# Altium integrated library MC21R01.IntLib: 84 symbols
Pins are listed as number, name and electrical type; pins without a type are passive.

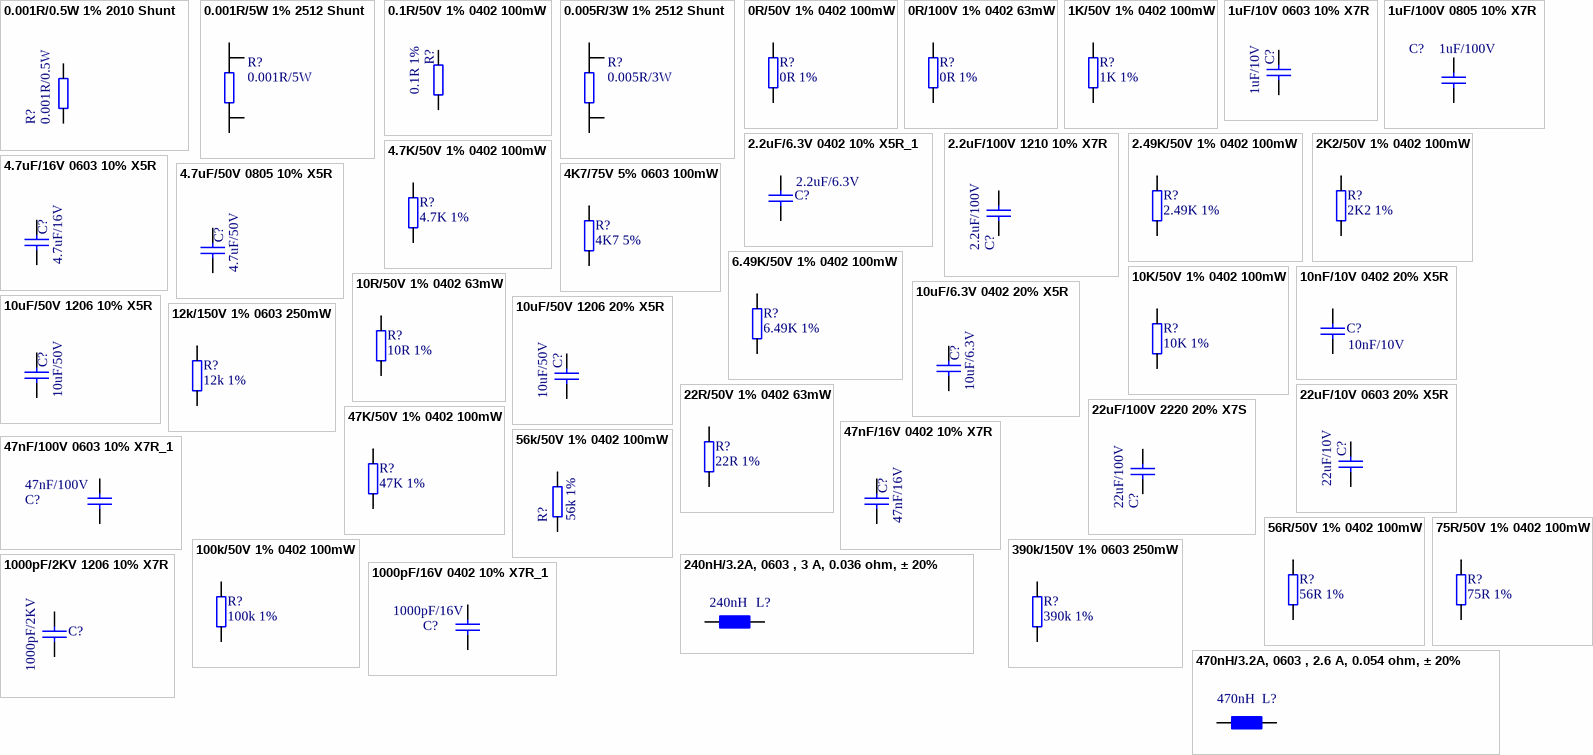
[diagram p0: symbols 0.001R/0.5W 1% 2010 Shunt to 1000pF/16V 0402 10% X7R_1]

## 0.001R/0.5W 1% 2010 Shunt
designator R?, comment 0.001R/0.5W
0.001R/0.5W 1% 2010 shunt SMD Resistor; Manufacturer 1: Vishay; Manufacturer Part Number 1: WSL20101L000FEA; Supplier 1: Farnell; Supplier Part Number 1: 2678801RL
footprint 2010 SMD Resistor VERTICAL (2010)
pins: 1, 2

## 0.001R/5W 1% 2512 Shunt
designator R?, comment 0.001R/5W
0.001R/5W 1% 2512 shunt SMD Resistor; Manufacturer 1: Bourns; Manufacturer Part Number 1: CSS2H-2512R-1L00F; Supplier 1: Farnell; Supplier Part Number 1: 2576347
footprint 2512 SMD Resistor v2 (2512)
footprint 2512 SMD Resistor V2 NETTIE (2512)
pins: 1, 2, 3, 4

## 0.1R/50V 1% 0402 100mW
designator R?, comment 0.1R 1%
0.1R/50V 1% 0402 100mW SMD Resistor; Manufacturer 1: Yageo; Manufacturer Part Number 1: RC0402FR-071KL; Supplier 1: Farnell; Supplier Part Number 1: 1284586; Value: 0.1R
footprint 0402 SMD rESISTOR
pins: 1, 2

## 0.005R/3W 1% 2512 Shunt
designator R?, comment 0.005R/3W
0.005R/3W 1% 2512 shunt SMD Resistor; Manufacturer 1: Bourns; Manufacturer Part Number 1: CRE2512-FZ-R005E-3; Supplier 1: Farnell; Supplier Part Number 1: 2434014
footprint 2512 SMD Resistor v2 (2512)
footprint 2512 SMD Resistor V2 NETTIE (2512)
pins: 1, 2, 3, 4

## 0R/50V 1% 0402 100mW
designator R?, comment 0R 1%
0R/50V 1% 0402 100mW SMD Resistor; Manufacturer 1: Vishay; Manufacturer Part Number 1: CRCW04020000Z0ED; Supplier 1: Farnell; Supplier Part Number 1: 1469661; Value: 0R
footprint 0402 SMD rESISTOR
pins: 1, 2

## 0R/100V 1% 0402 63mW
designator R?, comment 0R 1%
0R/100V 1% 0402 63mW SMD Resistor; Manufacturer 1: Bourns; Manufacturer Part Number 1: CR0402-J/-000GAS; Supplier 1: Farnell; Supplier Part Number 1: 2752981; Value: 0R
footprint 0402 SMD rESISTOR
pins: 1, 2

## 1K/50V 1% 0402 100mW
designator R?, comment 1K 1%
1K/50V 1% 0402 100mW SMD Resistor; Manufacturer 1: Yageo; Manufacturer Part Number 1: RC0402FR-071KL; Supplier 1: Mouser; Supplier 2: Farnell; Supplier Part Number 2: 9239235; Supplier Part Number 1: 603-RC0402FR-071KL; Value: 1K
footprint 0402 SMD rESISTOR
pins: 1, 2

## 1uF/10V 0603 10% X7R
designator C?  value 1uF/10V  (hidden comment: 1uF/10V 0603 10% X7R)
1uF/10V 0603 10% Tolerance X7R Multilayer Ceramic Chip Capacitor; Manufacturer 1: TAIYO YUDEN; Manufacturer Part Number 1: LMK107B7105KA-T; Supplier Part Number 1: 2112849; Supplier 1: Farnell
footprint 0603 SMD capacitor (0603 smd)
footprint 0603 SMD capacitor Hand Soldering (0603 smd)
pins: 1, 2

## 1uF/100V 0805 10% X7R
designator C?  value 1uF/100V  (hidden comment: 1uF/100V 0805 10% X7R)
1 uF 100 V 0805  ±10% Tolerance X7R Multilayer Ceramic Chip Capacitor; Manufacturer 1: AVX; Manufacturer Part Number 1: 08051C105K4T2A; Supplier 1: Farnell; Supplier 2: Mouser; Supplier Part Number 1: 2834935; Supplier Part Number 2: 581-08051C105K4T2A
footprint 0805 SMD capacitor (Chip Capacitor; Body 2.0 x 1.2 mm (LxW typ))
pins: 1, 2

## 2.2uF/6.3V 0402 10% X5R_1
designator C?, comment value 2.2uF/6.3V  (hidden comment: 2.2uF/6.3V 0402 10% X5R)
2.2uF/6.3V 0402 10% Tolerance X5R Multilayer Ceramic Chip Capacitor; Manufacturer 1: KEMET; Manufacturer Part Number 1: C0402C225K9PACTU; Supplier Part Number 1: 2442787; Supplier 1: Farnell
footprint 0402 SMD Capacitor
footprint 0402 SMD Capacitor Hand Soldering
pins: 1, 2

## 2.2uF/100V 1210 10% X7R
designator C?  value 2.2uF/100V  (hidden comment: 2.2uF/100V 1210 10% X7R)
2.2 uF 100 V 1210  ±10% Tolerance X7R Multilayer Ceramic Chip Capacitor; Manufacturer 1: KEMET; Manufacturer Part Number 1: C1210C225K1RACTU; Supplier 1: Farnell; Supplier Part Number 1: 1793832
footprint 1210 SMD capacitor h=2mm
pins: 1, 2

## 2.49K/50V 1% 0402 100mW
designator R?, comment 2.49K 1%
2.49K/50V 1% 0402 100mW SMD Resistor; Manufacturer 1: Vishay; Manufacturer Part Number 1: CRCW04022K49FKED; Supplier 1: Farnell; Supplier Part Number 1: 1469690; Value: 2.49K
footprint 0402 SMD rESISTOR
pins: 1, 2

## 2K2/50V 1% 0402 100mW
designator R?, comment 2K2 1%
2K2/50V 1% 0402 100mW SMD Resistor; Manufacturer 1: Yageo; Manufacturer Part Number 1: RC0402FR-072K2L; Value: 2.2k; Supplier 1: Farnell; Supplier Part Number 1: 9239278
footprint 0402 SMD rESISTOR
pins: 1, 2

## 4.7K/50V 1% 0402 100mW
designator R?, comment 4.7K 1%
4.7K/50V 1% 0402 100mW SMD Resistor; Manufacturer 1: Vishay; Manufacturer Part Number 1: CRCW04024K70FKED; Supplier 1: Farnell; Supplier Part Number 1: 1469712; Value: 4.7K
footprint 0402 SMD rESISTOR
pins: 1, 2

## 4.7uF/16V 0603 10% X5R
designator C?  value 4.7uF/16V  (hidden comment: 4.7uF/16V 0603 10% X5R)
4.7uF/16V 0603 10% Tolerance X5R Multilayer Ceramic Chip Capacitor; Manufacturer 1: TAIYO YUDEN; Manufacturer Part Number 1: EMK107B7105KA-T; Supplier 1: Farnell; Supplier 2: Mouser; Supplier 3: Digi-Key; Supplier Part Number 1: 2211173; Supplier Part Number 2: 810-C1608X5R1C475KAC; Supplier Part Number 3: 445-7478-1-ND
footprint 0603 SMD capacitor (0603 smd)
footprint 0603 SMD capacitor Hand Soldering (0603 smd)
pins: 1, 2

## 4.7uF/50V 0805 10% X5R
designator C?, comment value 4.7uF/50V  (hidden comment: 4.7uf/50V 0805 10% X5R)
4.7uF 50 V 0805 ±10% Tolerance X5R Multilayer Ceramic Chip Capacitor; Manufacturer 1: TDK; Manufacturer Part Number 1: C2012X5R1H475K125AB; Supplier 1: Farnell; Supplier Part Number 1: 2346932
footprint 0805 SMD capacitor (Chip Capacitor; Body 2.0 x 1.2 mm (LxW typ))
pins: 1, 2

## 4K7/75V 5% 0603 100mW
designator R?, comment 4K7 5%
4K7/75V 5% 0603 100mW SMD Resistor; Manufacturer 1: Yageo; Manufacturer Part Number 1: RC0603JR-074K7L; Supplier 1: Farnell; Supplier Part Number 1: 9233466
footprint 0603 SMD resistor (0603 smd)
pins: 1, 2

## 6.49K/50V 1% 0402 100mW
designator R?, comment 6.49K 1%
6.49K/50V 1% 0402 100mW SMD Resistor; Manufacturer 1: Vishay; Manufacturer Part Number 1: CRCW04026K49FKED; Supplier 1: Farnell; Supplier Part Number 1: 1469727; Value: 6.49K
footprint 0402 SMD rESISTOR
pins: 1, 2

## 10K/50V 1% 0402 100mW
designator R?, comment 10K 1%
10K/50V 1% 0402 100mW SMD Resistor; Manufacturer 1: Yageo; Manufacturer Part Number 1: RC0402FR-0710KL; Supplier 1: Farnell; Supplier Part Number 1: 9239359; Value: 10K
footprint 0402 SMD rESISTOR
pins: 1, 2

## 10nF/10V 0402 20% X5R
designator C?  value 10nF/10V  (hidden comment: 10nF/10V 0402 20% X5R)
10nF/10V 0402 20% Tolerance X5R Multilayer Ceramic Chip Capacitor; Manufacturer 1: KEMET; Manufacturer Part Number 1: C0402C103K8PACTU; Supplier Part Number 1: 2773069; Supplier 1: Farnell
footprint 0402 SMD Capacitor
footprint 0402 SMD Capacitor Hand Soldering
pins: 1, 2

## 10R/50V 1% 0402 63mW
designator R?, comment 10R 1%
10R/50V 1% 0402 63mW SMD Resistor; Manufacturer 1: Yageo; Manufacturer Part Number 1: RC0402FR-0710RL; Supplier 1: Farnell; Supplier Part Number 1: 9238999; Value: 10R
footprint 0402 SMD rESISTOR
pins: 1, 2

## 10uF/6.3V 0402 20% X5R
designator C?  value 10uF/6.3V  (hidden comment: 10uF/6.3V 0402 20% X5R)
10uF/6.3V 0402 20% Tolerance X5R Multilayer Ceramic Chip Capacitor; Manufacturer 1: KEMET; Manufacturer Part Number 1: C0402C106M9PACTU; Supplier Part Number 1: 2507061; Supplier 1: Farnell
footprint 0402 SMD Capacitor
footprint 0402 SMD Capacitor Hand Soldering
pins: 1, 2

## 10uF/50V 1206 10% X5R
designator C?, comment value 10uF/50V  (hidden comment: 10uf/50V 1206 10% X5R)
10 uF 50 V 1206 ±10% Tolerance X5R Multilayer Ceramic Chip Capacitor; Manufacturer 1: TDK; Manufacturer Part Number 1: CGA5L3X5R1H106K160AB; Supplier 1: Farnell; Supplier Part Number 1: 2211092
footprint 1206 SMD Capacitor (Chip Resistor; Body 3.2 x 1.6 mm (LxW typ))
pins: 1, 2

## 10uF/50V 1206 20% X5R
designator C?, comment value 10uF/50V  (hidden comment: 10uf/50V 1206 20% X5R)
10 uF 50 V 1206 ±20% Tolerance X5R Multilayer Ceramic Chip Capacitor; Manufacturer 1: Samsung; Manufacturer Part Number 1: CL31A106MBHNNNE; Supplier 1: Digi-key; Supplier Part Number 1: 1276-6736-1-ND
footprint 1206 SMD Capacitor (Chip Resistor; Body 3.2 x 1.6 mm (LxW typ))
pins: 1, 2

## 12k/150V 1% 0603 250mW
designator R?, comment 12k 1%
12k/150V 1% 0603 250mW SMD Resistor; Manufacturer 1: Panasonic; Manufacturer Part Number 1: ERJPA3F1202V; Supplier 1: Farnell; Supplier Part Number 1: 2335844
footprint 0603 SMD resistor (0603 smd)
footprint 0603 SMD resistor (0603 smd)
pins: 1, 2

## 22R/50V 1% 0402 63mW
designator R?, comment 22R 1%
22R/50V 1% 0402 63mW SMD Resistor; Manufacturer 1: Vishay; Manufacturer Part Number 1: CRCW040222R0FKED; Supplier 1: Farnell; Supplier Part Number 1: 1469697; Value: 22R
footprint 0402 SMD rESISTOR
pins: 1, 2

## 22uF/10V 0603 20% X5R
designator C?  value 22uF/10V  (hidden comment: 22uF/10V 0603 20% X5R)
22 uF 10 V 0603 ±20% Tolerance X5R Multilayer Ceramic Chip Capacitor; Manufacturer 1: Murata; Manufacturer Part Number 1: GRM188R60J106KE47D; Supplier 1: Farnell; Supplier Part Number 1: 2426957
footprint 0603 SMD capacitor (0603 smd)
footprint 0603 SMD capacitor Hand Soldering (0603 smd)
pins: 1, 2

## 22uF/100V 2220 20% X7S
designator C?  value 22uF/100V  (hidden comment: 22uF/100V 2220 20% X7S)
22 uF 100 V 2220 ±20% Tolerance X7S Multilayer Ceramic Chip Capacitor; Manufacturer 1: TDK; Manufacturer Part Number 1: CKG57NX7S2A226M500JH; Supplier 1: Farnell; Supplier Part Number 1: 2210742
footprint 2220 SMD Capacitor H=5MM
pins: 1, 2

## 47K/50V 1% 0402 100mW
designator R?, comment 47K 1%
47K/50V 1% 0402 100mW SMD Resistor; Manufacturer 1: Vishay; Manufacturer Part Number 1: CRCW060347K0FKEA; Supplier 1: Farnell; Supplier Part Number 1: 1469811; Value: 47K
footprint 0402 SMD rESISTOR
pins: 1, 2

## 47nF/16V 0402 10% X7R
designator C?  value 47nF/16V  (hidden comment: 47nF/16V 0402 10% X7R)
47nF/16V 0402 10% Tolerance X7R Multilayer Ceramic Chip Capacitor; Manufacturer 1: Walsin; Manufacturer Part Number 1: 0402B473J160CT; Supplier 1: Farnell; Supplier Part Number 1: 2524710
footprint 0402 SMD Capacitor
footprint 0402 SMD Capacitor Hand Soldering
pins: 1, 2

## 47nF/100V 0603 10% X7R_1
designator C?, comment value 47nF/100V  (hidden comment: 47nF/100V 0603 10% X7R)
47 nF 100 V 0603 ±10% Tolerance X7R Multilayer Ceramic Chip Capacitor; Manufacturer 1: KEMET; Manufacturer Part Number 1: C0603C473K1RACTU; Supplier 1: Farnell; Supplier Part Number 1: 1865550
footprint 0603 SMD capacitor (0603 smd)
footprint 0603 SMD capacitor Hand Soldering (0603 smd)
pins: 1, 2

## 56k/50V 1% 0402 100mW
designator R?, comment 56k 1%
56k/50V 1% 0402 63mW SMD Resistor; Manufacturer 1: Yageo; Manufacturer Part Number 1: RC0402FR-0756KL; Supplier 1: Farnell; Supplier Part Number 1: 9239448; Value: 56k
footprint 0402 SMD rESISTOR
pins: 1, 2

## 56R/50V 1% 0402 100mW
designator R?, comment 56R 1%
56R/50V 1% 0402 100mW SMD Resistor; Manufacturer 1: Vishay; Manufacturer Part Number 1: CRCW040256R0FKEDHP; Supplier 1: Farnell; Supplier Part Number 1: 1738833; Value: 56R
footprint 0402 SMD rESISTOR
pins: 1, 2

## 75R/50V 1% 0402 100mW
designator R?, comment 75R 1%
75R/50V 1% 0402 100mW SMD Resistor; Manufacturer 1: Vishay; Manufacturer Part Number 1: RC0402FR-071KL; Supplier 1: Farnell; Supplier Part Number 1: 1469734; Value: 75R
footprint 0402 SMD rESISTOR
pins: 1, 2

## 100k/50V 1% 0402 100mW
designator R?, comment 100k 1%
100k/50V 1% 0402 100mW SMD Resistor; Manufacturer 1: Vishay; Manufacturer Part Number 1: CRCW0402100KFKED; Supplier 1: Farnell; Supplier Part Number 1: 1469671; Value: 100k
footprint 0402 SMD rESISTOR
pins: 1, 2

## 240nH/3.2A, 0603 , 3 A, 0.036 ohm, ± 20%
designator L?, comment 240nH
Inductor, 240nH, 0603 [1608 Metric], 3.2 A, 0.036 ohm, ± 20%; MPN: DFE18SANR24ME0L; MF: MURATA; Tolerance: ±250%; DC Current Rating: 3.2A; DC Resistance Max:: 0.04R; Impedance: 240nH; Supplier 1: Farnell; Supplier Part Number 1: 2871416
footprint 0603 SMD inductor (0603 smd)
pins: 1, 2

## 390k/150V 1% 0603 250mW
designator R?, comment 390k 1%
390k/150V 1% 0603 250mW SMD Resistor; Manufacturer 1: Panasonic; Manufacturer Part Number 1: ERJPA3F3903V; Supplier 1: Farnell; Supplier Part Number 1: 2335911
footprint 0603 SMD resistor (0603 smd)
footprint 0603 SMD resistor (0603 smd)
pins: 1, 2

## 470nH/3.2A, 0603 , 2.6 A, 0.054 ohm, ± 20%
designator L?, comment 470nH
Inductor, 470nH, 0603 [1608 Metric], 2.6 A, 0.054 ohm, ± 20%; MPN: DFE18SANR47MG0L; MF: MURATA; Tolerance: ±250%; DC Current Rating: 2.6A; DC Resistance Max:: 0.056R; Impedance: 470nH; Supplier 1: Mouser; Supplier Part Number 1: 81-DFE18SANR47MG0L
footprint 0603 SMD inductor (0603 smd)
pins: 1, 2

## 1000pF/2KV 1206 10% X7R
designator C?, comment 1000pF/2KV
1000 pF 2 KV 1206  ±10% Tolerance X7R Multilayer Ceramic Chip Capacitor; Manufacturer 1: Kemet; Manufacturer Part Number 1: C1206C102KGRACTU; Supplier Part Number 1: 1572651; Supplier 1: Farnell; Value: 1000pF/2KV
footprint 1206 SMD Capacitor (Chip Resistor; Body 3.2 x 1.6 mm (LxW typ))
pins: 1, 2

## 1000pF/16V 0402 10% X7R_1
designator C?, comment value 1000pF/16V  (hidden comment: 1000pF/16V 0402 10% X7R)
1000pF/16V 0402 10% Tolerance X7R Multilayer Ceramic Chip Capacitor; Manufacturer 1: KEMET; Manufacturer Part Number 1: C0402C102K4RACTU; Supplier 1: Farnell; Supplier Part Number 1: 2522378
footprint 0402 SMD Capacitor
footprint 0402 SMD Capacitor Hand Soldering
pins: 1, 2

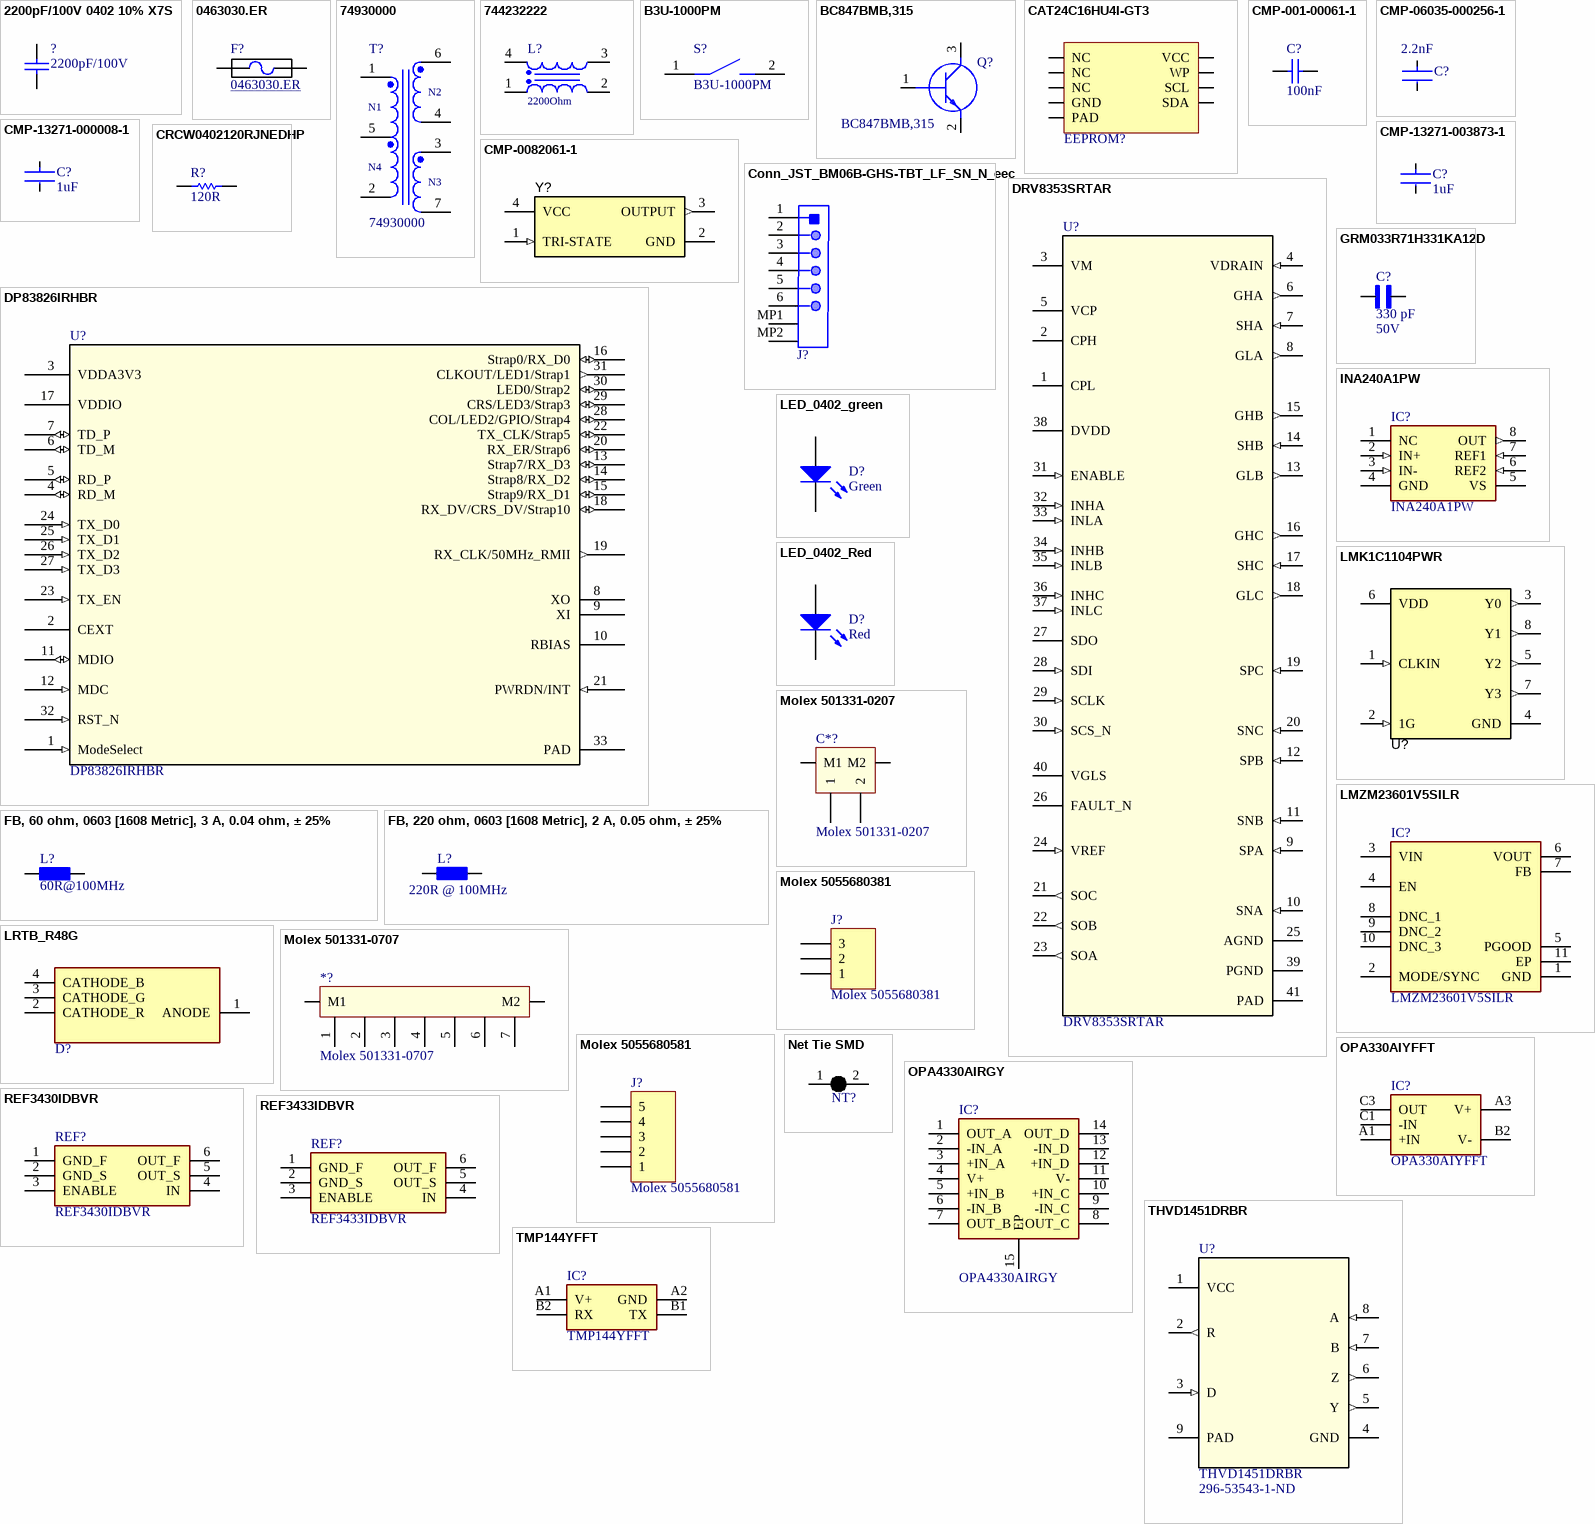
[diagram p1: symbols 2200pF/100V 0402 10% X7S to TMP144YFFT]

## 2200pF/100V 0402 10% X7S
designator ?  value 2200pF/100V  (hidden comment: 2200pF/100V 0402 10% X7S)
2200pF/100V 0402 10% Tolerance X7S Multilayer Ceramic Chip Capacitor; Manufacturer 1: TDK; Manufacturer Part Number 1: C1005X7S2A222K050BB; Supplier 1: Farnell; Supplier Part Number 1: 2906779
footprint 0402 SMD Capacitor
footprint 0402 SMD Capacitor Hand Soldering
pins: 1, 2

## 0463030.ER
designator F?
LITTELFUSE - 0463030.ER - 100VDC 30A FUSE SMD; Supplier 1: Farnell; Supplier Part Number 1: 2786390
footprint 0463030.ER (Littelfuse 100VDC 30A)
pins: 1, 2

## 74930000
designator T?
WE-STST Super Tiny Signal Transformer, size 4532, 350uH; Insulation Test Voltage: 1500VRMS; Turns Ratio: 1:1; ComponentLink1Description: Manufacturer; ComponentLink1URL: http://www.we-online.de; ComponentLink2Description: Datasheet; ComponentLink2URL: https://katalog.we-online.com/pbs/datasheet/74930000.pdf; Packaging: Tape and Reel; Publisher: Wurth Elektronik; Size: 4532; Inductance: 350uH; Mounting Technology: SMT; Operating Temperature: -40 to +105degC; Part Number: 74930000; Published Date: November 2019
footprint 74930000 (Super Tiny Signal Transformer)
pins: 1, 2, 3, 4, 5, 6, 7
text: N2; N1; N4; N3

## 744232222
designator L?, comment 2200Ohm
WE-CNSW SMT Common Mode Line Filter, size 1206, 2200Ohm, 0.2A, 50V; Manufacturer Part Number: 744232222; Manufacturer: Wurth Elektronik; DC Resistance max.: 1.2Ohm; Impedance Test Condition: 100MHz; Insulation Test Voltage: 125VAC; Winding Style: bifiliar; ComponentLink1Description: Manufacturer; ComponentLink1URL: http://www.we-online.de; ComponentLink2Description: Datasheet; ComponentLink2URL: https://www.we-online.com/catalog/datasheet/744232222.pdf; Operating Temperature: -40 to +125degC; Packaging: Tape and Reel; Published Date: April 2020; Rated Current: 0.2A; Size: 1206; Impedance: 2200Ohm; Rated Voltage: 50V; Mounting Technology: SMT; Supplier 1: Mouser; Supplier Part Number 1: 710-744232222
footprint 744232222 (Common Mode Line Filter)
pins: 1, 2, 3, 4

## B3U-1000PM
designator S?
Tactile switch, top actuator; Manufacturer: Omron Electronics; Datasheet Link: https://componentsearchengine.com/Datasheets/1/B3U-1000PM.pdf; Height: 1.75mm; Manufacturer Part Number: B3U-1000PM; Arrow Part Number: B3U-1000PM; Supplier 1: Mouser; Supplier Part Number 1: 653-B3U-1000PM; Mouser Price/Stock: https://www.mouser.co.uk/ProductDetail/Omron-Electronics/B3U-1000PM?qs=hnUcNC2tU0oiJUWqjOlHqA%3D%3D; Created by: AMP; Published: 26-08-2020
footprint B3U1000PM
pins: 1 COM, 2 NO

## BC847BMB,315
designator Q?
Transistor BJT NPN; Manufacturer_Name: Nexperia; Datasheet Link: https://componentsearchengine.com/Datasheets/1/BC847BMB,315.pdf; Manufacturer_Part_Number: BC847BMB,315; Arrow Part Number: BC847BMB,315; Arrow Price/Stock: https://www.arrow.com/en/products/bc847bmb315/nexperia; Mouser Part Number: 771-BC847BMB315; Mouser Price/Stock: https://www.mouser.co.uk/ProductDetail/Nexperia/BC847BMB315?qs=5C9Q4QJFsuN7bUmIcU4LYw%3D%3D
footprint SOT883B
pins: 1 B, 2 E, 3 C

## CAT24C16HU4I-GT3
designator EEPROM?  (value not drawn)
CAT24C16 Series 16 Kb (2K x 8) 400 kHz I2C CMOS Serial EEPROM - UDFN-8EP; Manufacturer: ON Semi; Manufacturer Part Number: CAT24C16 Series 16 Kb (2K x 8) 400 kHz I2C CMOS Serial EEPROM - UDFN-8EP; Created By: AMP; Published: 20-08-2020; Supplier 1: Mouser; Supplier Part Number 1: 863-CAT24C16HU4I-GT3
footprint PQFN50P300X200X50_HS-9N (PQFN, 8-Leads, Body 3,00x2,00mm, Pitch 0,50mm, Thermal Pad 1,30x1,40mm, IPC Medium Density)
pins: 1 NC, 2 NC, 3 NC, 4 GND, 5 SDA, 6 SCL, 7 WP, 8 VCC, 9 PAD

## CMP-001-00061-1
designator C?, comment value 100nF  (hidden comment: 100nF/25V 0201 10% X6S)
100nF/25V 0201 10% Tolerance X6S Multilayer Ceramic Chip Capacitor; Manufacturer: Murata; Manufacturer Part Number: GRM033C81E104KE14D; Populated: Yes; Provided by customer: No; Voltage Rating (DC): 25V; Capacitance: 100nF; Case/Package: 0201; Case Code (Imperial): 0201; Case Code (Metric): 0603; Dielectric: X6S; Height: 0.3mm; Length: 0.024inch; Max Operating Temperature: 105°C; Min Operating Temperature: -55°C; Mount: Surface Mount; Package Quantity: 15000; Packaging: Tape and Reel; Termination: SMD/SMT; Thickness: 0.013inch; Tolerance: 10%; Voltage Rating: 25V; Weight: 1.2E-05oz; Width: 0.3mm; Component Type: Capacitors
footprint CAPC0603X03N (Chip Capacitor, 2-Leads, Body 0,60x0,30mm, IPC Medium Density)
pins: 1, 2

## CMP-06035-000256-1
designator C?, comment Capacitance: 2.2nF  (hidden comment: 2200pF/25V 0201 10% X7R)
2200pF/25V 0201 10% Tolerance X7R Multilayer Ceramic Chip Capacitor; Manufacturer: Murata; Manufacturer Part Number: GRM033R71E222KA12D; Voltage Rating (DC): 25V; Depth: 0.3mm; Tolerance: 10%; Min Operating Temperature: -55°C; Max Operating Temperature: 125°C; Length: 0.6mm; Case Code (Metric): 0603; Width: 0.012inch; Height: 0.3mm; Case/Package: 0201; Mount: Surface Mount; Thickness: 0.013inch; Voltage Rating: 25V; Termination: SMD/SMT; Packaging: Tape and Reel; Package Quantity: 15000; Dielectric: X7R; Weight: 1.2E-05oz; Case Code (Imperial): 0201; Resistor Type: Ceramic
footprint FP-GRM033-0_03-IPC_A
footprint FP-GRM033-0_03-MFG
footprint FP-GRM033-0_03-IPC_B
footprint FP-GRM033-0_03-IPC_C
pins: 1, 2

## CMP-13271-000008-1
designator C?, comment Capacitance: 1uF  (hidden comment: CL03A105MO3NRNH)
CAP CER 1UF 16V X5R 0201; Manufacturer: Samsung Electro-Mechanics; Manufacturer: Samsung; Tolerance: 20%; Material: Ceramic; Temperature Coefficient: 15%; Automotive: No; Temperature Range High: +85°C; Manufacturer Part Number: CL03A105MO3NRNH; Temperature: -55°C to +85°C; Package: CL03; Temperature Range Low: -55°C; Height: 0.39mm; ComponentLink2URL: http://www.samsungsem.com/global/front/downloadcms.do?path=%2F%2Fglobal%2F%2Fsupport%2F%2Fproduct-search%2F%2Fmlcc%2F%2F__icsFiles%2F%2Fafieldfile%2F%2F2018%2F%2F06%2F%2F21&fileName=CL03A105MO3NRNH.pdf; RoHS: TRUE; Value: 1uF; Lead Free: Yes; Voltage Rating: 16V; Octopart: https://octopart.com/cl03a105mo3nrnh-samsung-47681184; Device Class L2: Capacitors; ComponentLink2Description: Datasheet; Device Class L3: Ceramic Capacitors; Digikey Description: CAP CER 1UF 16V X5R 0201; Category: Cap; Temperature Characteristic: X5R; Device Class L1: Passive Components; Ipc Land Pattern Name: CAPC6030X30
footprint FP-CL03-IPC_C
footprint FP-CL03-IPC_B
footprint FP-CL03-IPC_A
pins: 1, 2

## CMP-13271-003873-1
designator C?, comment Capacitance: 1uF  (hidden comment: 1uF/6.3V 0201 10% X5R)
1uF/6.3V 0201 10% Tolerance X5R Multilayer Ceramic Chip Capacitor; Manufacturer: Samsung; Manufacturer Part Number: CL03A105MQ3CSNC; Voltage Rating: 6.3V; Tolerance: 20%; Lead Free: Lead Free; Packaging: Tape and Reel; Dielectric: X5R; Case Code (Imperial): 0201; Max Operating Temperature: 85°C; Case/Package: 0201; Depth: 0.3mm; Width: 0.012inch; Thickness: 0.013inch; Length: 0.024inch; Case Code (Metric): 0603; Package Quantity: 1; Min Operating Temperature: -55°C; Mount: Surface Mount
footprint FP-CL03-IPC_A
footprint FP-CL03-IPC_B
footprint FP-CL03-IPC_C
pins: 1, 2

## CMP-0082061-1
designator Y?, comment ECS-2520S33-250-FN-TR  (value not drawn)
Oscillator, 25 MHz, 15 pF, SMD; Manufacturer: ECS Inc.; Frequency Stability: 10 ppm; SizeAreaWB_mm2: 10.5; SizeArea_mm2: 5; AEC Qualified: N; AEC Category: Q200; TaMax_C: 85°C; SizeZ_mm: 1; Frequency_Fixed: 25MHz; TaMin_C: -40°C; SizeY_mm: 2.5; Load Capacitance: 15 pF; SizeX_mm: 2; ComponentLink1Description: Datasheet Link; RoHS: Y; Supplier 1: Digi-Key; PackageReference: 2x2.5mm; PartNumber: ECS-2520S33-250-FN-TR; Supplier Part Number 2: 520-2520S33-250-FNT; Supplier 2: Mouser; AEC Grade: N/A; ComponentLink1URL: https://www.ecsxtal.com/store/pdf/ECS-2520S.pdf; CompType: Oscillator; Supplier Part Number 1: XC2198CT-ND; MountType: SMT
footprint ECS_ECS-2520S (SMD, 4-Leads, Body 2x2.5mm)
pins: 1 TRI-STATE (in), 2 GND (power), 3 OUTPUT (out), 4 VCC (power)

## Conn_JST_BM06B-GHS-TBT_LF_SN_N_eec
designator J?  (value not drawn)
CONN HEADER GH TOP 6POS 1.25MM; Manufacturer: JST; Part Number: BM06B-GHS-TBT(LF)(SN)(N); helpURL: https://upverter.com/upn/revision/9caaf2120726c690/; ComponentLink2Description: Datasheet; Temperature: -25°C to +85°C; Package: HDR06; Supplier 2: Mouser; Price: 0.396190066284; Supplier 1: Digi-Key; ComponentLink1URL: https://upverter.com/upn/revision/9caaf2120726c690/; Supplier Part Number 1: 455-1582-1-ND; ComponentLink1Description: Upverter; ComponentLink2URL: http://www.jst-mfg.com/product/pdf/eng/eGH.pdf; RoHS: TRUE; Temperature Range High: +85°C; Digikey Description: CONN HEADER GH TOP 6POS 1.25MM; Digikey Part Number: 455-1582-1-ND; Temperature Range Low: -25°C; Lead Free: yes
footprint JST_BM06B-GHS-TBT_LF_SN_N_0
pins: 1, 2, 3, 4, 5, 6, MP1, MP2

## CRCW0402120RJNEDHP
designator R?  Resistance: 120R  (hidden comment: CRCW0402120RJNEDHP)
RES SMD 120 OHM 5% 1/5W 0402; Manufacturer: Vishay Dale; Power Rating: 125mW; Voltage Rating: 50V; Temperature Coefficient: 200ppm/°C; Part Number: CRCW0402120RJNEDHP; Supplier 1: Digi-Key; Manufacturer Part Number: CRCW0402120RJNEDHP; RoHS: Yes; Category: Chip SMD Resistors; Stock 1: 18750; Pricing 1: 1=0,13000, 10=0,11300, 100=0,04350, 1000=0,01912, 2500=0,01651, 5000=0,01477 (USD); Case/Package: 0402; Weight: 2.3E-05oz; Case Code (Metric): 1005; Case Code (Imperial): 0402; Min Operating Temperature: -55°C; Max Operating Temperature: 155°C; Package Quantity: 1; Tolerance: 5%; Packaging: Tape and Reel; Composition: Thick Film; Max Power Dissipation: 125mW; Features: Automotive AEC-Q200; Number of Terminations: 2; Termination: SMD/SMT; Military Standard: Not; Length: 1mm; Height: 0.016inch; Width: 0.02inch; Depth: 0.5mm; Lead Free: Lead Free; ComponentLink1URL: https://datasheet.ciiva.com/12577/crcwhpe3-46056-12577101.pdf?src-supplier=Mouser; ComponentLink1Description: https://datasheet.ciiva.com/12577/crcwhpe3-46056-12577101.pdf?src-supplier=Mouser; ComponentLink2URL: https://datasheet.ciiva.com/6548/crcwhpe3-6548111.pdf?src-supplier=Digi-Key; ComponentLink2Description: https://datasheet.ciiva.com/6548/crcwhpe3-6548111.pdf?src-supplier=Digi-Key; Supplier Part Number 1: 541-120YACT-ND
footprint RESC1005X40X25ML05T10 (Chip Resistor, 2-Leads, Body 1.00x0.50mm, IPC Low Density)
footprint RESC1005X40X25LL05T10 (Chip Resistor, 2-Leads, Body 1.00x0.50mm, IPC High Density)
footprint RESC1005X40X25NL05T10 (Chip Resistor, 2-Leads, Body 1.00x0.50mm, IPC Medium Density)
pins: 1, 2
1 alternate drawing of the same symbol

## DP83826IRHBR
designator U?
Low latency 10/100-Mbps PHY, MII interface and enhanced mode with an industrial temperature range 32-VQFN -40 to 85; Manufacturer: Texas Instruments; Supplier 1: Avnet; Manufacturer Part Number: DP83826IRHBR; Pricing 1: 3000=1,00750, 6000=0,96850, 12000=0,92300, 18000=0,89700, 24000=0,86450 (USD); ComponentLink1URL: https://octopart.com/click/track?ai=8629&ct=datasheets&sig=00cfb32&at=physicalpart&sid=370&ppid=108112645&hlid=29178382&src-supplier=TI+store; ComponentLink1Description: https://octopart.com/click/track?ai=8629&ct=datasheets&sig=00cfb32&at=physicalpart&sid=370&ppid=108112645&hlid=29178382&src-supplier=TI+store; Supplier Part Number 1: DP83826IRHBR
footprint RHB0032B
pins: 1 ModeSelect (in), 2 CEXT, 3 VDDA3V3 (power), 4 RD_M (io), 5 RD_P (io), 6 TD_M (io), 7 TD_P (io), 8 XO, 9 XI, 10 RBIAS, 11 MDIO (io), 12 MDC (in), 13 Strap7/RX_D3 (io), 14 Strap8/RX_D2 (io), 15 Strap9/RX_D1 (io), 16 Strap0/RX_D0 (io), 17 VDDIO (power), 18 RX_DV/CRS_DV/Strap10 (io), 19 RX_CLK/50MHz_RMII (out), 20 RX_ER/Strap6 (io), 21 PWRDN/INT (in), 22 TX_CLK/Strap5 (io), 23 TX_EN (in), 24 TX_D0 (in), 25 TX_D1 (in), 26 TX_D2 (in), 27 TX_D3 (in), 28 COL/LED2/GPIO/Strap4 (io), 29 CRS/LED3/Strap3 (io), 30 LED0/Strap2 (io), 31 CLKOUT/LED1/Strap1 (out), 32 RST_N (in), 33 PAD (power)

## DRV8353SRTAR
designator U?
102-V max 3-phase smart gate driver with current shunt amplifiers; Manufacturer: Texas Instruments; PartNumber: DRV8353SRTAR; RefDes: RefDes; TYPE: TYPE; Value: Value; Supplier 1: Arrow; Manufacturer Part Number: DRV8353SRTAR; RoHS: No; Stock 1: 2000; Pricing 1: 2000=3,20540, 4000=3,09430, 10000=3,08440, 50000=3,06460 (USD); Supplier Part Number 1: DRV8353SRTAR
footprint RTA0040B
footprint QFN50P600X600X80_HS-41N (QFN, 40-Leads, Body 6,00x6,00mm, Pitch 0,50mm, Thermal Pad 4,10x4,10mm, IPC Medium Density)
pins: 1 CPL, 2 CPH, 3 VM (power), 4 VDRAIN (in), 5 VCP (power), 6 GHA (out), 7 SHA (in), 8 GLA (out), 9 SPA (in), 10 SNA (in), 11 SNB (in), 12 SPB (in), 13 GLB (out), 14 SHB (in), 15 GHB (out), 16 GHC (out), 17 SHC (in), 18 GLC (out), 19 SPC (in), 20 SNC (in), 21 SOC (out), 22 SOB (out), 23 SOA (out), 24 VREF (in), 25 AGND (power), 26 FAULT_N (oc), 27 SDO, 28 SDI (in), 29 SCLK (in), 30 SCS_N (in), 31 ENABLE (in), 32 INHA (in), 33 INLA (in), 34 INHB (in), 35 INLB (in), 36 INHC (in), 37 INLC (in), 38 DVDD (power), 39 PGND (power), 40 VGLS (power), 41 PAD (power)

## FB, 60 ohm, 0603 [1608 Metric], 3 A, 0.04 ohm, ± 25%
designator L?, comment 60R@100MHz
Ferrite Bead, 60 ohm, 0603 [1608 Metric], 3 A, 0.04 ohm, ± 25%; MPN: 742792602; MF: Wurth Electronik; DC Current Rating: 3A; DC Resistance Max:: 0.04R; Tolerance: ±25%; Impedance: 60R@100MHz; Supplier 1: Farnell; Supplier Part Number 1: 1635704
footprint 0603 SMD inductor (0603 smd)
pins: 1, 2

## FB, 220 ohm, 0603 [1608 Metric], 2 A, 0.05 ohm, ± 25%
designator L?, comment 220R @ 100MHz
Ferrite Bead, 220 ohm, 0603 [1608 Metric], 2 A, 0.05 ohm, ± 25%; MPN: BLM18EG221SN1D; MF: MURATA; DC Current Rating: 2A; DC Resistance Max:: 0R05; Tolerance: ±25%; Impedance: 220R @ 100MHz; Supplier 1: Farnell; Supplier Part Number 1: 1515716
footprint 0603 SMD inductor (0603 smd)
pins: 1, 2

## GRM033R71H331KA12D
designator C?, comment value 330 pF  Voltage: 50V  (hidden comment: 330pF/50V 0201 10% X7R)
330pF/50V 0201 10% Tolerance X7R Multilayer Ceramic Chip Capacitor; MP: GRM033R71H331KA12D; MF: Murata; SnapEDA_Link: https://www.snapeda.com/parts/GRM033R71H331KA12D/Murata/view-part/1976079/?ref=snap; Digi-Key_Purchase_URL: https://www.digikey.com/product-detail/en/murata-electronics/GRM033R71H331KA12D/490-17085-1-ND/7602084?utm_source=snapeda&utm_medium=aggregator&utm_campaign=symbol; Digi-Key_Part_Number: 490-17085-1-ND; Package: 0603 Taiyo Yuden
footprint CAPC0603X33N
pins: 1, 2

## INA240A1PW
designator IC?
20V/V current sense amplifier; Manufacturer_Name: Texas Instruments; Datasheet Link: http://www.ti.com/general/docs/lit/getliterature.tsp?genericPartNumber=ina240&fileType=pdf; Height: 1.2mm; Manufacturer_Part_Number: INA240A1PW; Supplier Part Number 1: 595-INA240A1PW; Supplier 1: Mouser
footprint SOP65P640X120-8N
pins: 1 NC, 2 IN+ (in), 3 IN- (in), 4 GND (power), 5 VS (power), 6 REF2 (in), 7 REF1 (in), 8 OUT (out)

## LED_0402_green
designator D?, comment Green
Low Profile Chip LED, Green; Manufacturer: ROHM; Manufacturer Part Number: SML-P11MTT86R; Supplier 1: Farnell; Supplier Part Number 1: 2507544
footprint 0402 SMD LED GREEN
pins: A, K

## LED_0402_Red
designator D?, comment Red
Low Profile Chip LED, Red; Manufacturer: ROHM; Manufacturer Part Number: SML-P11UTT86R; Supplier 1: Farnell; Supplier Part Number 1: 2507545
footprint 0402 SMD LED Red
pins: A, K

## LMK1C1104PWR
designator U?  (value not drawn)
Low Jitter, 1:4 LVCMOS Fan-out Clock Buffer, PW0008A (TSSOP-8); Alternate Manufacturer: Texas Instruments; Green_Lifecycle: Active; SizeAreaWB_mm2: 42.0; Green_REACh: Passed; U/M: EA; SizeZ_mm: 1.2; SizeX_mm: 6.4; SizeY_mm: 3.0; SizeArea_mm2: 19.2; CompType: IC; ComponentLink1URL: http://www.ti.com/lit/ds/symlink/cdclvc1104.pdf; Publisher: Texas Instruments; PackageDescription: TSSOP-8; RoHS: Y; MountType: SMT; Green_EU RoHS-2: Passed; Manufacturer: Texas Instruments; Green_EU RoHS: Passed; PackageReference: PW0008A; PartNumber: LMK1C1104PWR; ComponentLink1Description: Datasheet Link; Supplier 1: Mouser; Supplier Part Number 1: 595-LMK1C1104PWR
footprint SOP65P640X120-8N
pins: 1 CLKIN (in), 2 1G (in), 3 Y0 (out), 4 GND (power), 5 Y2 (out), 6 VDD (power), 7 Y3 (out), 8 Y1 (out)

## LMZM23601V5SILR
designator IC?
5V 1A Step-down regulator. 4V to 36V input, 5V fixed output; Manufacturer_Name: Texas Instruments; Datasheet Link: http://www.ti.com/lit/gpn/lmzm23601; Height: 1mm; Manufacturer_Part_Number: LMZM23601V5SILR; Supplier Part Number 1: 595-LMZM23601V5SILR; Supplier 1: Mouser
footprint LMZM23601V5SILR
pins: 1 GND, 2 MODE/SYNC, 3 VIN, 4 EN, 5 PGOOD, 6 VOUT, 7 FB, 8 DNC_1, 9 DNC_2, 10 DNC_3, 11 EP

## LRTB_R48G
designator D?, comment RGB LED  (value not drawn)
RGB LED, SMD 1x1mm common anode; Manufacturer: OSRAM; Manufacturer Part Number: LRTB R48G; Datasheet Link: https://dammedia.osram.info/media/resource/hires/osram-dam-4307982/LRTB%20R48G.pdf; Height: 0.65mm; Supplier 1: Farnell; Supplier Part Number 1: 2981676; Created by: AMP; Published: 24-08-2020
footprint LRTB R48G
pins: 1 ANODE, 2 CATHODE_R, 3 CATHODE_G, 4 CATHODE_B

## Molex 501331-0207
designator C*?
PicoClasp 02 pin vertical; Supplier 1: Farnell; Supplier Part Number 1: 1835976
footprint Molex 501331-0207 (Molex 5013310207)
pins: 1, 2, M1, M2

## Molex 501331-0707
designator *?
PicoClasp 07 pin vertical; Supplier 1: Digi-Key; Supplier Part Number 1: WM7884TR-ND
footprint Molex 501331-0707 (Molex 5013310707)
pins: 1, 2, 3, 4, 5, 6, 7, M1, M2

## Molex 5055680381
designator J?
1.25mm Pitch, Micro-Lock Plus PCB Header, Single Row, Vertical, Surface Mount, Gold Plating, Positive Lock, 3 Circuits, Tape and Reel, Black; Mating Part Number: Molex 5055650301; Crimp: Molex 5054311100; Created by: Yaiza Montes; Published: 20/07/2020; Manufacturer: Molex; Manufacturer Part Number: 5055680381; Supplier 1: Mouser; Supplier Part Number 1: 538-505568-0381
footprint Molex 5055680381
pins: 1, 2, 3

## Molex 5055680581
designator J?
1.25mm Pitch, Micro-Lock Plus PCB Header, Single Row, Vertical, Surface Mount, Gold Plating, Positive Lock, 5 Circuits, Tape and Reel, Black; Mating Part Number: Molex 5055650501; Crimp: Molex 5054311100; Created by: AMP; Published: 29/05/2020; Manufacturer: Molex; Manufacturer Part Number: 5055680581; Supplier 1: Mouser; Supplier Part Number 1: 538-505568-0581
footprint Molex 5055680581
pins: 1, 2, 3, 4, 5

## Net Tie SMD
designator NT?  (value not drawn)  (net tie, no BOM)
Net Tie starpoint
footprint Net Tie SMD 0.2x0.2mm (Net Tie SMD)
footprint Net Tie SMD 0.2x0.6mm (Net Tie SMD)
footprint Net Tie SMD 0.3x0.8mm (Net Tie SMD)
footprint Net Tie SMD 0.4x0.8mm (Net Tie SMD)
pins: 1, 2

## OPA330AIYFFT
designator IC?
1 Channel op amp  0.25-μV/°C, 35-μA CMOS Operational Amplifiers Zero-Drift; Manufacturer_Name: Texas Instruments; Datasheet Link: http://www.ti.com/lit/gpn/opa330; Height: 1.45mm; Manufacturer_Part_Number: OPA330AIYFFT; Supplier Part Number 1: 595-OPA330AIYFFT; Mouser Price/Stock: https://www.mouser.co.uk/ProductDetail/Texas-Instruments/OPA330AIDBVT?qs=DS7Z8uEdLNxVoZWMB%2FsKAQ%3D%3D; RS Part Number: 8122619P; RS Price/Stock: http://uk.rs-online.com/web/p/products/8122619P; Supplier 1: Mouser
footprint OPA330 DSBGA (BGA, 5-Leads, Body 0,82x1,12mmx0,63mm, Pitch 0,40mm)
pins: A1 +IN, A3 V+, B2 V-, C1 -IN, C3 OUT

## OPA4330AIRGY
designator IC?
4 Channel op amp  0.25-μV/°C, 35-μA CMOS Operational Amplifiers Zero-Drift; Manufacturer_Name: Texas Instruments; Manufacturer_Part_Number: OPA4330AIDR; Datasheet Link: http://www.ti.com/lit/gpn/opa4330; Height: 1.75mm; Supplier Part Number 1: 595-OPA4330AIRGYT; Mouser Price/Stock: https://www.mouser.co.uk/ProductDetail/Texas-Instruments/OPA4330AIDR?qs=EuM%2FBx4ov4R6DjwOW%252BMW9A%3D%3D; Supplier 1: Mouser
footprint OPA4330 RGY (PQFN, 14-Leads, Body 3,50x3,50mm, Pitch 0,50mm/1,50mm, Thermal Pad 2,08x2,08mm, IPC Medium Density)
pins: 1 OUT_A, 2 -IN_A, 3 +IN_A, 4 V+, 5 +IN_B, 6 -IN_B, 7 OUT_B, 8 OUT_C, 9 -IN_C, 10 +IN_C, 11 V-, 12 +IN_D, 13 -IN_D, 14 OUT_D, 15 EP

## REF3430IDBVR
designator REF?
3V Low-drift Low power Voltage reference 10ppm/ºC; Manufacturer_Name: Texas Instruments; Datasheet Link: http://www.ti.com/lit/gpn/ref3430; Height: 1.45mm; Manufacturer_Part_Number: REF3430IDBVR; Supplier Part Number 1: 595-REF3430IDBVR; Supplier 1: Mouser
footprint SOT95P280X145-6N
pins: 1 GND_F, 2 GND_S, 3 ENABLE, 4 IN, 5 OUT_S, 6 OUT_F

## REF3433IDBVR
designator REF?
3V3 Low-drift Low power Voltage reference 10ppm/ºC; Manufacturer_Name: Texas Instruments; Datasheet Link: http://www.ti.com/lit/gpn/ref3430; Height: 1.45mm; Manufacturer_Part_Number: REF3433IDBVR; Supplier Part Number 1: 595-REF3433IDBVR; Supplier 1: Mouser
footprint SOT95P280X145-6N
pins: 1 GND_F, 2 GND_S, 3 ENABLE, 4 IN, 5 OUT_S, 6 OUT_F

## THVD1451DRBR
designator U?  Supplier Part Number 1: 296-53543-1-ND
Single Transmitter/Receiver RS-422/RS-485 8-Pin VSON EP T/R; Manufacturer: Texas Instruments; Simplex/Duplex: Full Duplex; PartNumber: THVD1451DRBR; RefDes: RefDes; TYPE: TYPE; Value: Value; Supplier 1: Digi-Key; Manufacturer Part Number: THVD1451DRBR; RoHS: No; Stock 1: 1028; Pricing 1: 1=2,66000, 10=2,38700, 25=2,25680, 100=1,85560, 250=1,66500, 500=1,60480, 1000=1,33399 (USD); Min Operating Temperature: -40°C; Max Operating Temperature: 125°C
footprint DRB0008F
pins: 1 VCC (power), 2 R (out), 3 D (in), 4 GND (power), 5 Y (out), 6 Z (out), 7 B (in), 8 A (in), 9 PAD

## TMP144YFFT
designator IC?
Integrated Circuit; Manufacturer_Name: Texas Instruments; Datasheet Link: http://www.ti.com/lit/ds/symlink/tmp144.pdf; Height: 0.625mm; Manufacturer_Part_Number: TMP144YFFT; Mouser Part Number: 595-TMP144YFFT; Mouser Price/Stock: https://www.mouser.com/Search/Refine.aspx?Keyword=595-TMP144YFFT
footprint TMP144YFFT
pins: A1 V+, A2 GND, B1 TX, B2 RX

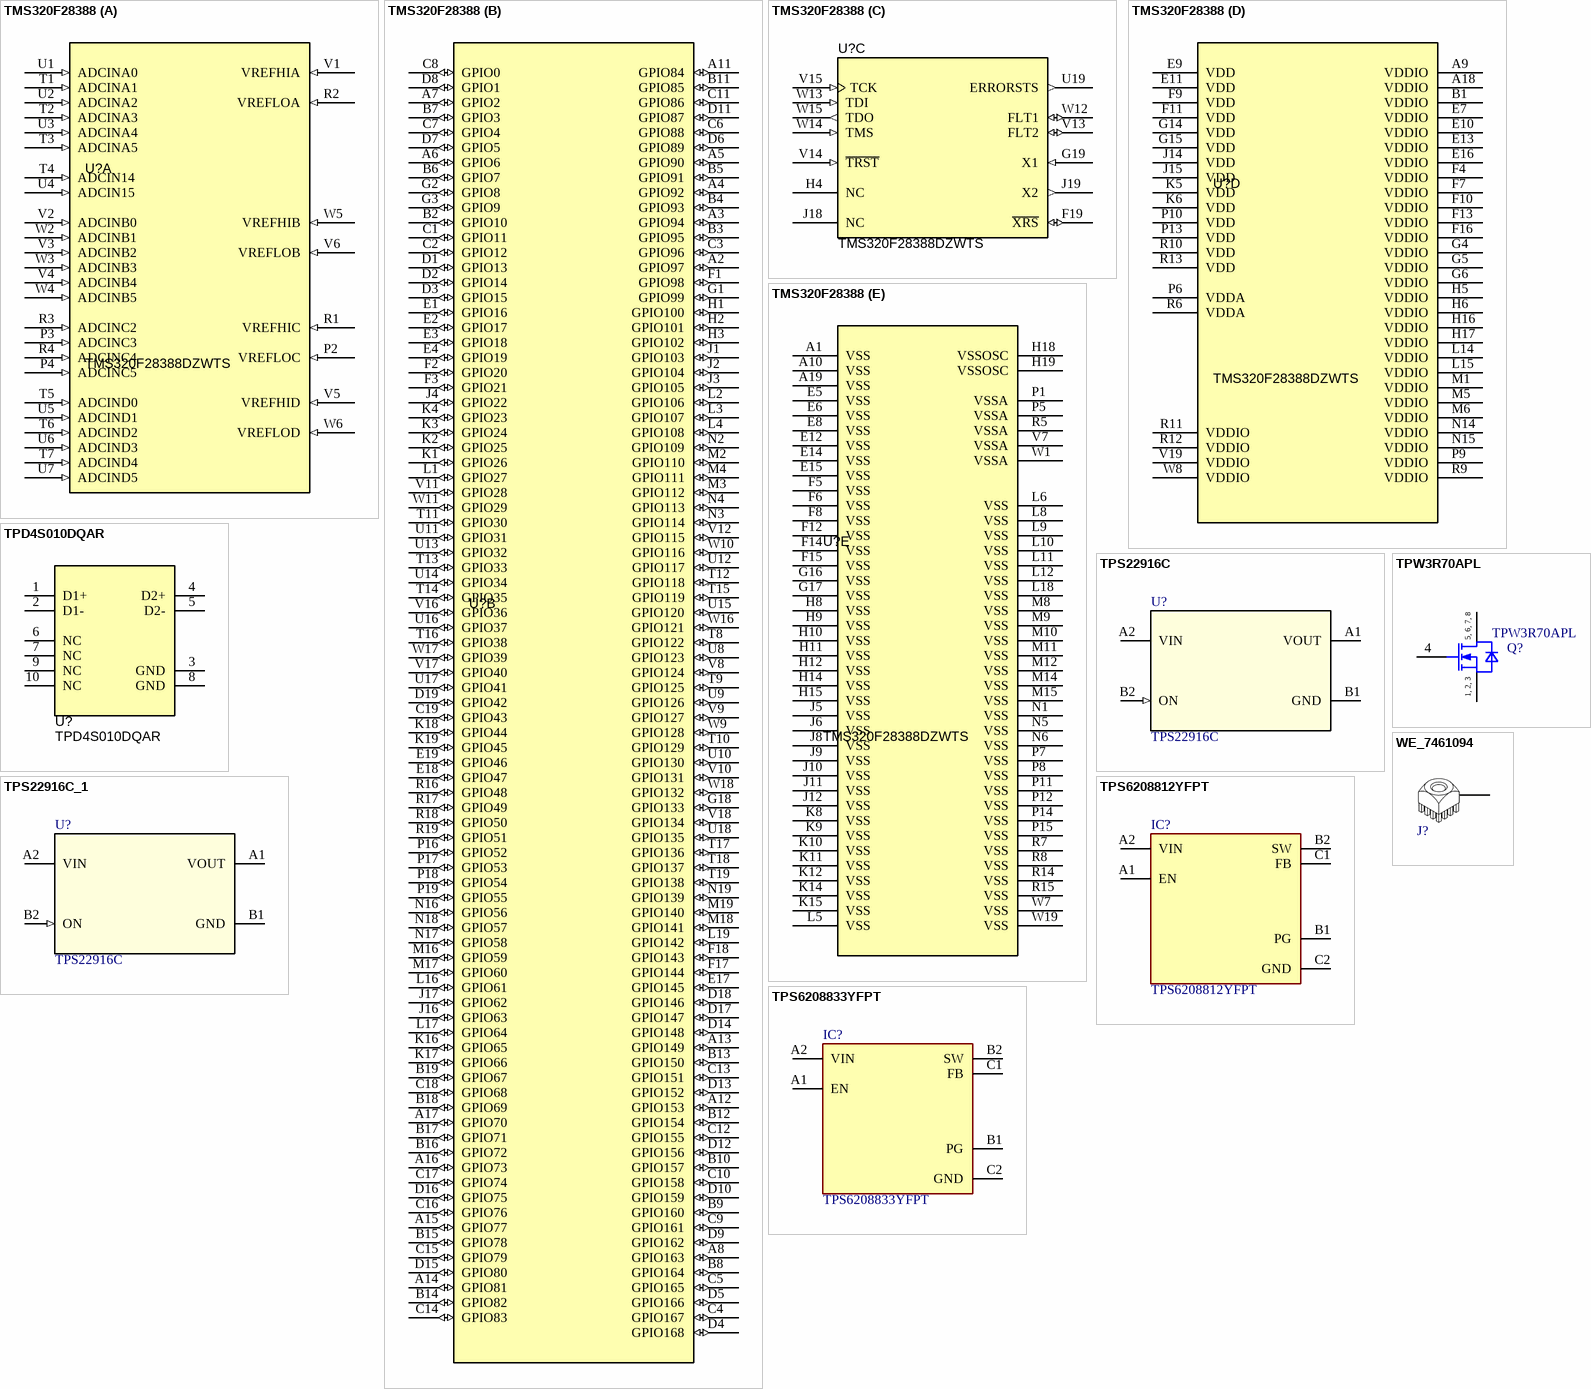
[diagram p2: symbols TMS320F28388 to WE_7461094]

## TMS320F28388
designator U?, comment TMS320F28388DZWTS
TMS320F28388DZWTS, ZWT0337A (NFBGA-337); Manufacturer: Texas Instruments; SizeAreaWB_mm2: 324; SizeArea_mm2: 256; AEC Qualified: N; AEC Category: Q200; SizeZ_mm: 1.4; SizeY_mm: 16; CompType: IC; ComponentLink1Description: Datasheet Link; ComponentLink2Description: Product Folder; PackageReference: ZWT0337A; PackageDescription: NFBGA-337; ComponentLink2URL: http://www.ti.com/product/tms320f28388d; Alternate Manufacturer: Texas Instruments; ComponentLink3URL: http://www.ti.com/product/tms320f28388d/datasheet; ComponentLink1URL: http://www.ti.com/lit/ds/symlink/tms320f28388d.pdf; MountType: SMT; ComponentLink3Description: Online Datasheet; SizeX_mm: 16; PartNumber: TMS320F28388DZWTS
footprint ZWT0337A (BGA, 337-Leads, Body 16x16mmx1.4mm, Pitch 0.80mm)
part A pins: P2 VREFLOC (in), P3 ADCINC3 (in), P4 ADCINC5 (in), R1 VREFHIC (in), R2 VREFLOA (in), R3 ADCINC2 (in), R4 ADCINC4 (in), T1 ADCINA1 (in), T2 ADCINA3 (in), T3 ADCINA5 (in), T4 ADCIN14 (in), T5 ADCIND0 (in), T6 ADCIND2 (in), T7 ADCIND4 (in), U1 ADCINA0 (in), U2 ADCINA2 (in), U3 ADCINA4 (in), U4 ADCIN15 (in), U5 ADCIND1 (in), U6 ADCIND3 (in), U7 ADCIND5 (in), V1 VREFHIA (in), V2 ADCINB0 (in), V3 ADCINB2 (in), V4 ADCINB4 (in), V5 VREFHID (in), V6 VREFLOB (in), W2 ADCINB1 (in), W3 ADCINB3 (in), W4 ADCINB5 (in), W5 VREFHIB (in), W6 VREFLOD (in)
part B pins: A2 GPIO97 (io), A3 GPIO94 (io), A4 GPIO92 (io), A5 GPIO90 (io), A6 GPIO6 (io), A7 GPIO2 (io), A8 GPIO163 (io), A11 GPIO84 (io), A12 GPIO153 (io), A13 GPIO149 (io), A14 GPIO81 (io), A15 GPIO77 (io), A16 GPIO73 (io), A17 GPIO70 (io), B2 GPIO10 (io), B3 GPIO95 (io), B4 GPIO93 (io), B5 GPIO91 (io), B6 GPIO7 (io), B7 GPIO3 (io), B8 GPIO164 (io), B9 GPIO160 (io), B10 GPIO157 (io), B11 GPIO85 (io), B12 GPIO154 (io), B13 GPIO150 (io), B14 GPIO82 (io), B15 GPIO78 (io), B16 GPIO72 (io), B17 GPIO71 (io), B18 GPIO69 (io), B19 GPIO67 (io), C1 GPIO11 (io), C2 GPIO12 (io), C3 GPIO96 (io), C4 GPIO167 (io), C5 GPIO165 (io), C6 GPIO88 (io), C7 GPIO4 (io), C8 GPIO0 (io), C9 GPIO161 (io), C10 GPIO158 (io), C11 GPIO86 (io), C12 GPIO155 (io), C13 GPIO151 (io), C14 GPIO83 (io), C15 GPIO79 (io), C16 GPIO76 (io), C17 GPIO74 (io), C18 GPIO68 (io), C19 GPIO43 (io), D1 GPIO13 (io), D2 GPIO14 (io), D3 GPIO15 (io), D4 GPIO168 (io), D5 GPIO166 (io), D6 GPIO89 (io), D7 GPIO5 (io), D8 GPIO1 (io), D9 GPIO162 (io), D10 GPIO159 (io), D11 GPIO87 (io), D12 GPIO156 (io), D13 GPIO152 (io), D14 GPIO148 (io), D15 GPIO80 (io), D16 GPIO75 (io), D17 GPIO147 (io), D18 GPIO146 (io), D19 GPIO42 (io), E1 GPIO16 (io), E2 GPIO17 (io), E3 GPIO18 (io), E4 GPIO19 (io), E17 GPIO145 (io), E18 GPIO47 (io), E19 GPIO46 (io), F1 GPIO98 (io), F2 GPIO20 (io), F3 GPIO21 (io), F17 GPIO144 (io), F18 GPIO143 (io), G1 GPIO99 (io), G2 GPIO8 (io), G3 GPIO9 (io), G18 GPIO133 (io), H1 GPIO100 (io), H2 GPIO101 (io), H3 GPIO102 (io), J1 GPIO103 (io), J2 GPIO104 (io), J3 GPIO105 (io), J4 GPIO22 (io), J16 GPIO63 (io), J17 GPIO62 (io), K1 GPIO26 (io), K2 GPIO25 (io), K3 GPIO24 (io), K4 GPIO23 (io), K16 GPIO65 (io), K17 GPIO66 (io), K18 GPIO44 (io), K19 GPIO45 (io), L1 GPIO27 (io), L2 GPIO106 (io), L3 GPIO107 (io), L4 GPIO108 (io), L16 GPIO61 (io), L17 GPIO64 (io), L19 GPIO142 (io), M2 GPIO110 (io), M3 GPIO112 (io), M4 GPIO111 (io), M16 GPIO59 (io), M17 GPIO60 (io), M18 GPIO141 (io), M19 GPIO140 (io), N2 GPIO109 (io), N3 GPIO114 (io), N4 GPIO113 (io), N16 GPIO56 (io), N17 GPIO58 (io), N18 GPIO57 (io), N19 GPIO139 (io), P16 GPIO52 (io), P17 GPIO53 (io), P18 GPIO54 (io), P19 GPIO55 (io), R16 GPIO48 (io), R17 GPIO49 (io), R18 GPIO50 (io), R19 GPIO51 (io), T8 GPIO122 (io), T9 GPIO125 (io), T10 GPIO129 (io), T11 GPIO30 (io), T12 GPIO118 (io), T13 GPIO33 (io), T14 GPIO35 (io), T15 GPIO119 (io), T16 GPIO38 (io), T17 GPIO136 (io), T18 GPIO137 (io), T19 GPIO138 (io), U8 GPIO123 (io), U9 GPIO126 (io), U10 GPIO130 (io), U11 GPIO31 (io), U12 GPIO117 (io), U13 GPIO32 (io), U14 GPIO34 (io), U15 GPIO120 (io), U16 GPIO37 (io), U17 GPIO41 (io), U18 GPIO135 (io), V8 GPIO124 (io), V9 GPIO127 (io), V10 GPIO131 (io), V11 GPIO28 (io), V12 GPIO115 (io), V16 GPIO36 (io), V17 GPIO40 (io), V18 GPIO134 (io), W9 GPIO128 (io), W10 GPIO116 (io), W11 GPIO29 (io), W16 GPIO121 (io), W17 GPIO39 (io), W18 GPIO132 (io)
part C pins: F19 ~{XRS} (io), G19 X1 (in), H4 NC, J18 NC, J19 X2 (out), U19 ERRORSTS (out), V13 FLT2 (io), V14 ~{TRST} (in), V15 TCK (in), W12 FLT1 (io), W13 TDI (in), W14 TMS (in), W15 TDO (out)
part D pins: A9 VDDIO (power), A18 VDDIO (power), B1 VDDIO (power), E7 VDDIO (power), E9 VDD (power), E10 VDDIO (power), E11 VDD (power), E13 VDDIO (power), E16 VDDIO (power), F4 VDDIO (power), F7 VDDIO (power), F9 VDD (power), F10 VDDIO (power), F11 VDD (power), F13 VDDIO (power), F16 VDDIO (power), G4 VDDIO (power), G5 VDDIO (power), G6 VDDIO (power), G14 VDD (power), G15 VDD (power), H5 VDDIO (power), H6 VDDIO (power), H16 VDDIO (power), H17 VDDIO (power), J14 VDD (power), J15 VDD (power), K5 VDD (power), K6 VDD (power), L14 VDDIO (power), L15 VDDIO (power), M1 VDDIO (power), M5 VDDIO (power), M6 VDDIO (power), N14 VDDIO (power), N15 VDDIO (power), P6 VDDA (power), P9 VDDIO (power), P10 VDD (power), P13 VDD (power), R6 VDDA (power), R9 VDDIO (power), R10 VDD (power), R11 VDDIO (power), R12 VDDIO (power), R13 VDD (power), V19 VDDIO (power), W8 VDDIO (power)
part E pins: A1 VSS (power), A10 VSS (power), A19 VSS (power), E5 VSS (power), E6 VSS (power), E8 VSS (power), E12 VSS (power), E14 VSS (power), E15 VSS (power), F5 VSS (power), F6 VSS (power), F8 VSS (power), F12 VSS (power), F14 VSS (power), F15 VSS (power), G16 VSS (power), G17 VSS (power), H8 VSS (power), H9 VSS (power), H10 VSS (power), H11 VSS (power), H12 VSS (power), H14 VSS (power), H15 VSS (power), H18 VSSOSC (power), H19 VSSOSC (power), J5 VSS (power), J6 VSS (power), J8 VSS (power), J9 VSS (power), J10 VSS (power), J11 VSS (power), J12 VSS (power), K8 VSS (power), K9 VSS (power), K10 VSS (power), K11 VSS (power), K12 VSS (power), K14 VSS (power), K15 VSS (power), L5 VSS (power), L6 VSS (power), L8 VSS (power), L9 VSS (power), L10 VSS (power), L11 VSS (power), L12 VSS (power), L18 VSS (power), M8 VSS (power), M9 VSS (power), M10 VSS (power), M11 VSS (power), M12 VSS (power), M14 VSS (power), M15 VSS (power), N1 VSS (power), N5 VSS (power), N6 VSS (power), P1 VSSA (power), P5 VSSA (power), P7 VSS (power), P8 VSS (power), P11 VSS (power), P12 VSS (power), P14 VSS (power), P15 VSS (power), R5 VSSA (power), R7 VSS (power), R8 VSS (power), R14 VSS (power), R15 VSS (power), V7 VSSA (power), W1 VSSA (power), W7 VSS (power), W19 VSS (power)

## TPD4S010DQAR
designator U?
ESD Solution for High-Speed Differential Interface, 4 Channels, -40 to +85 degC,10-pin SON (DQA), Green (RoHS & no Sb/Br); Manufacturer: Texas Instruments; IO Leakage Current(nA): 10; IO Capacitance(Typ)(pF): 0.8; 1394 / Firewire: TRUE; Breakdown Voltage(Min)(V): 9; Differential Capacitance(pF): 0.05; IEC 61000-4-2 Contact(+/- kV): 8; ComponentLink1URL: http://www.ti.com/; PackageDescription: 10-Pin Plastic Small Outline No-Lead, 1 x 2.5 x 0.55 mm Body, 0.5 mm Pitch; ComponentLink2URL: http://www.ti.com/general/docs/lit/getliterature.tsp?genericPartNumber=TPD4S010&fileType=pdf; Serial ATA / eSATA: TRUE; ComponentLink3Description: URL Link1; Eco-Plan: Green (RoHS & no Sb/Br); ComponentLink2Description: Datasheet; ComponentLink3URL: SamplesURL:http://www.ti.com/product/tpd4s010#samples; PackageReference: DQA0010A; DatasheetVersion: SLVS817E; SubFamily: ESD Solution; PackageVersion: revB, Sep-2009; Mounting Technology: Surface Mount; ComponentLink1Description: Manufacturer URL; IEC 61000-4-2 Air-Gap(+/- kV): 9; PartNumber: TPD4S010DQAR
footprint DQA0010A (SON, 10-Leads, Body 1x2.5mm, Pitch 0.5mm, TI Recommended)
pins: 1 D1+ "High-speed ESD clamp provides ESD protection to the high-speed differential data line", 2 D1- "High-speed ESD clamp provides ESD protection to the high-soeed differential data line", 3 GND (power) "Ground", 4 D2+ "High-speed ESD clamp provides ESD protection to the high-speed differential data line", 5 D2- "High-speed ESD clamp provides ESD protection to the high-speed differential data line", 6 NC "Not internally connected", 7 NC "Not internally connected", 8 GND (power) "Ground", 9 NC "Not internally connected", 10 NC "Not internally connected"

## TPS22916C
designator U?
TPS22916CY Single-Channel Ultra-Low Leakage Load Switch 2A 60 mO 1V to 5.5V 4-Pin DSBGA T/R; Manufacturer: Texas Instruments; Manufacturer Part Number: TPS22916CYFPR; Number of Channels: 1; Fault Protection: Reverse Current; Output Configuration: High Side; Supplier 1: Digi-Key; RoHS: No; Stock 1: 2282; Pricing 1: 1=0,42000, 10=0,36400, 25=0,33960, 100=0,25220, 250=0,21340, 500=0,20370, 1000=0,15035 (USD); Min Operating Temperature: -40°C; Max Operating Temperature: 85°C; Packaging: Tape and Reel; Number of Outputs: 1; Max Output Current: 2A; ComponentLink1URL: http://www.ti.com/lit/ds/symlink/tps22916.pdf?src-supplier=Digi-Key; ComponentLink1Description: http://www.ti.com/lit/ds/symlink/tps22916.pdf?src-supplier=Digi-Key; Supplier Part Number 1: 296-50065-1-ND
footprint YFP0004ABAB
pins: A1 VOUT (power), A2 VIN (power), B1 GND (power), B2 ON (in)

## TPS22916C_1
designator U?, comment TPS22916C
TPS22916CY Single-Channel Ultra-Low Leakage Load Switch 2A 60 mO 1V to 5.5V 4-Pin DSBGA T/R; Manufacturer: Texas Instruments; Manufacturer Part Number: TPS22916CYFPR; Number of Channels: 1; Fault Protection: Reverse Current; Output Configuration: High Side; Supplier 1: Digi-Key; RoHS: No; Stock 1: 2282; Pricing 1: 1=0,42000, 10=0,36400, 25=0,33960, 100=0,25220, 250=0,21340, 500=0,20370, 1000=0,15035 (USD); Min Operating Temperature: -40°C; Max Operating Temperature: 85°C; Packaging: Tape and Reel; Number of Outputs: 1; Max Output Current: 2A; ComponentLink1URL: http://www.ti.com/lit/ds/symlink/tps22916.pdf?src-supplier=Digi-Key; ComponentLink1Description: http://www.ti.com/lit/ds/symlink/tps22916.pdf?src-supplier=Digi-Key; Supplier Part Number 1: 296-50065-1-ND
footprint YFP0004ABAB
pins: A1 VOUT (power), A2 VIN (power), B1 GND (power), B2 ON (in)

## TPS6208812YFPT
designator IC?
1.2V 3A Step-Down converter; Manufacturer_Name: Texas Instruments; Datasheet Link: http://www.ti.com/lit/gpn/tps62088; Height: 0.5mm; Manufacturer_Part_Number: TPS6208812YFPT; Supplier Part Number 1: 595-TPS6208812YFPT; Supplier 1: Mouser
footprint BGA6C40P2X3_80X120X50
pins: A1 EN, A2 VIN, B1 PG, B2 SW, C1 FB, C2 GND

## TPS6208833YFPT
designator IC?
3.3V 3A Step-Down converter; Manufacturer_Name: Texas Instruments; Datasheet Link: http://www.ti.com/lit/gpn/tps62088; Height: 0.5mm; Manufacturer_Part_Number: TPS6208833YFPT; Supplier Part Number 1: 595-TPS6208833YFPT; Supplier 1: Mouser
footprint BGA6C40P2X3_80X120X50
pins: A1 EN, A2 VIN, B1 PG, B2 SW, C1 FB, C2 GND

## TPW3R70APL
designator Q?
Silicon N-channel MOS (U-MOS-H); Manufacturer: Toshiba Semicon; Manufacturer Order Number: TPW3R70APL; PackageReference: DSOP Advance; Supplier 1: Mouser; Supplier 2: Mouser; Supplier Part Number 1: 757-TPW3R70APLL1Q; Supplier Part Number 2: 757-TPW3R70APLL1Q
footprint DSOP Advance Toshiba (Transistor; 1.27mm pitch, 8 pin, 6.00mm L X 5.00mm W X 1.1mm H body)
pins: 1 SOURCE, 2 SOURCE, 3 SOURCE, 4 GATE, 5 DRAIN, 6 DRAIN, 7 DRAIN, 8 DRAIN
text: 5, 6, 7, 8; 1, 2, 3

## WE_7461094
designator J?  (value not drawn)
REDCUBE PRESS-FIT with external thread and full plain pin-plate WPSHFU, 130A, M3 screw, 9pins; Manufacturer: WURTH ELEKTRONIK; Manufacturer Part Number: 7461094; Created by: Yaiza Montes; Published: 29/05/20; Value: WE_7461094; Supplier 1: Farnell; Supplier 2: Mouser; Supplier 3: Digi-Key; Supplier Part Number 1: 1821284; Supplier Part Number 2: 710-7461094; Supplier Part Number 3: 732-3212-ND
footprint WE_7461094 (9 pins, screw)
pins: 1